# EAGLE library part MINI_DIN_4 (library crasbe)
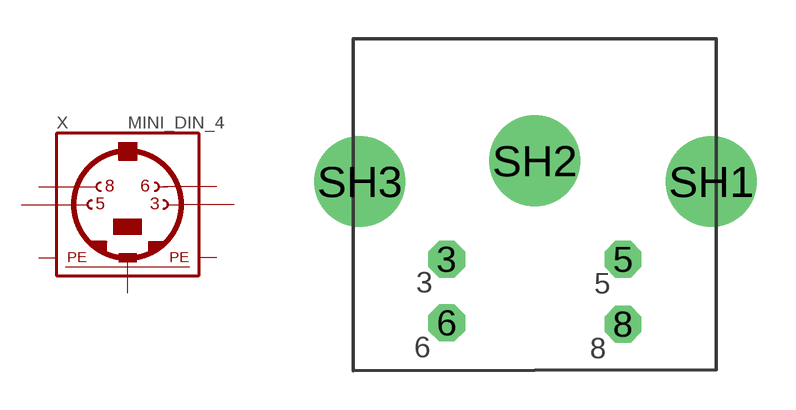
[diagram p56: symbol with the pads of M_DIN4; footprint M_DIN4]

Designator prefix X

## MINI_DIN_4  [M_DIN4]
3  3  pas
5  5  pas
6  6  pas
8  8  pas
SH1  PE1  pwr
SH2  PE2  pwr
SH3  PE3  pwr

## Footprint M_DIN4 (pad centres in mm)
drill 0.9 pad 1.422 octagon: 3 -3.4,-3.75; 5 3.4,-3.75; 6 -3.4,-6.2; 8 3.4,-6.25
drill 2.3 pad 3.5: SH1 6.8,-0.75; SH2 0,0.05; SH3 -6.75,-0.75